# Altium footprint library 2寸电阻屏.PcbLib: 1 footprints
Each footprint in its own frame and in the unit in brackets; x right, y up, seen from the top. Pads: shape width x height; smd on the part's side, far side on the other; paste and mask are expansions set on the pad; w line width, h text height; cw(c..) or ccw(c..) is an arc to the next point about the centre after c.
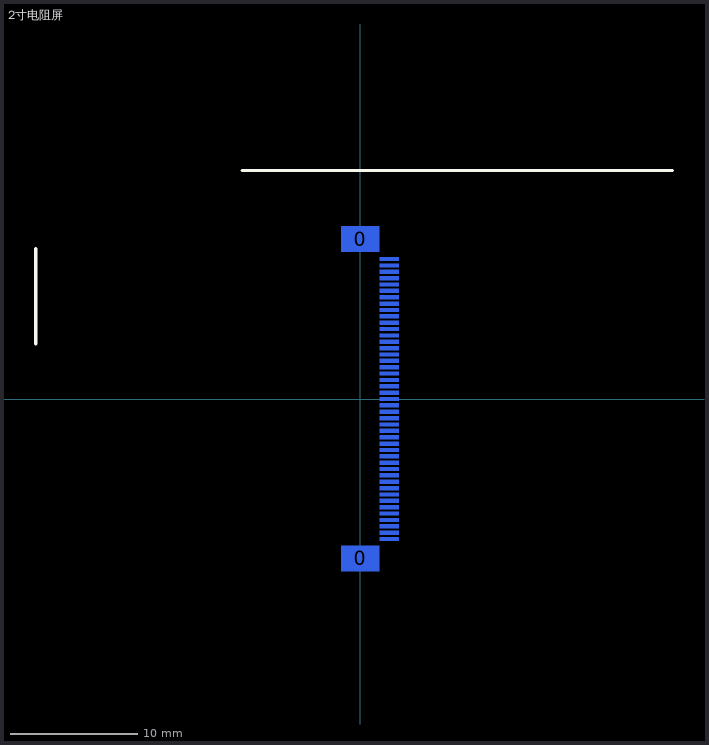
[diagram p0: the footprint, top view; thin cyan lines are the x and y axes]

## 2寸电阻屏 [mm]
pads (47):
  rect 3x2 smd far side: 0(0,-12.515) 0(0.006,12.568)
  rect 1.5x0.3 smd far side: 1(2.261,-11.001) 2(2.261,-10.502) 3(2.261,-10.002) 4(2.261,-9.502) 5(2.261,-9.002) 6(2.261,-8.502) 7(2.261,-8.002) 8(2.261,-7.502) 9(2.261,-7.002) 10(2.261,-6.502) 11(2.261,-6.002) 12(2.261,-5.502) 13(2.261,-5.002) 14(2.261,-4.502) 15(2.262,-4.006) 16(2.261,-3.502) 17(2.26,-3.002) 18(2.261,-2.502) 19(2.261,-2.003) 20(2.264,-1.5) 21(2.264,-1) 22(2.264,-0.5) 23(2.264,0) 24(2.264,0.5) 25(2.264,1) 26(2.264,1.501) 27(2.265,2.001) 28(2.264,2.5) 29(2.264,2.999) 30(2.264,3.501) 31(2.264,4) 32(2.263,4.5) 33(2.264,5) 34(2.264,5.5) 35(2.264,6) 36(2.264,6.5) 37(2.264,7) 38(2.264,7.5) 39(2.263,8) 40(2.264,8.5) 41(2.264,9) 42(2.264,9.5) 43(2.264,9.999) 44(2.264,10.5) 45(2.264,11)
Top Overlay:
  lines w0.254: -25.5,4.318 -25.5,11.811 ; -9.271,17.95 24.511,17.95
Bottom Overlay:
  region: -3.158,-11.293 -3.158,-10.403 -2.148,-10.863
  lines w0.254: -5.6,-13.975 -3.62,-13.975 ; -5.59,-13.975 -5.59,14.025 ; -5.58,14.025 -3.6,14.025 ; 1.76,-11.382 1.76,-13.975 -3.59,-13.975 -3.59,14.025 1.76,14.025 1.76,11.382